# EAGLE library part 87832-22 (library con-molex-milli-grid)
HEADER
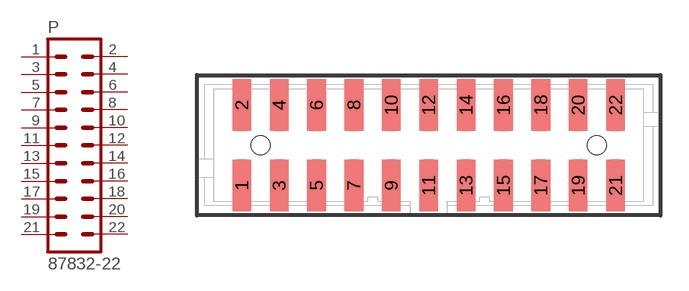
[diagram p99: symbol with the pads of 87832-22; footprint 87832-22]

Designator prefix P

## 87832-22  [87832-22]
1  1  pas
2  2  pas
3  3  pas
4  4  pas
5  5  pas
6  6  pas
7  7  pas
8  8  pas
9  9  pas
10  10  pas
11  11  pas
12  12  pas
13  13  pas
14  14  pas
15  15  pas
16  16  pas
17  17  pas
18  18  pas
19  19  pas
20  20  pas
21  21  pas
22  22  pas

## Footprint 87832-22 (pad centres in mm)
HEADER SMD Dual Row, Shrouded, Vertical
smd 1 x 2.75: 1 -10,-2.15; 2 -10,2.15; 3 -8,-2.15; 4 -8,2.15; 5 -6,-2.15; 6 -6,2.15; 7 -4,-2.15; 8 -4,2.15; 9 -2,-2.15; 10 -2,2.15; 11 0,-2.15; 12 0,2.15; 13 2,-2.15; 14 2,2.15; 15 4,-2.15; 16 4,2.15; 17 6,-2.15; 18 6,2.15; 19 8,-2.15; 20 8,2.15; 21 10,-2.15; 22 10,2.15
hole 1 at -9,0
hole 1 at 9,0